# EAGLE library part MPQ4436GRE-AEC1-Z (library ruark2)
45V 6A Buck Switching Regulator IC Positive Adjustable 0.815V 1 Output 20-PowerVFQFN
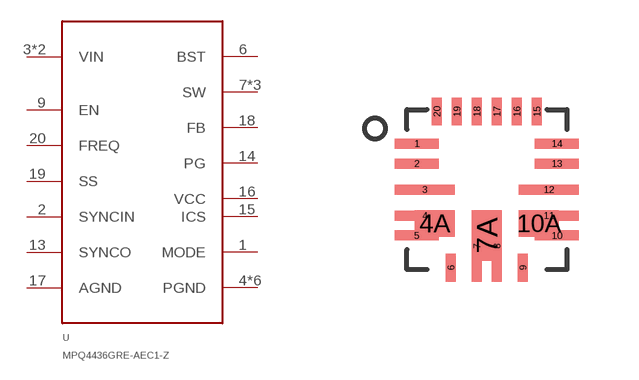
[diagram p144: symbol with the pads of MPQ-QFN-20-4X4; footprint MPQ-QFN-20-4X4]

Designator prefix U

## MPQ4436GRE-AEC1-Z (PARTNO: 1589-MPQ4436GRE-AEC1-ZCT-ND)  [MPQ-QFN-20-4X4]
1  MODE
2  SYNCIN
3  VIN
4  PGND
4A  PGND
5  PGND
6  BST
7  SW
7A  SW
8  SW
9  EN
10  PGND
10A  PGND
11  PGND
12  VIN
13  SYNCO
14  PG
15  ICS
16  VCC
17  AGND
18  FB
19  SS
20  FREQ

## Footprint MPQ-QFN-20-4X4 (pad centres in mm)
smd 1.1 x 0.25: 1 -1.75,1.15; 2 -1.75,0.65; 5 -1.75,-1.15; 10 1.75,-1.15; 13 1.75,0.65; 14 1.75,1.15
smd 1.5 x 0.25: 3 -1.55,0; 4 -1.55,-0.65; 11 1.55,-0.65; 12 1.55,0
smd 1 x 0.65: 4A -1.3,-0.85; 10A 1.3,-0.85
smd 0.25 x 0.7: 6 -0.9,-1.95; 9 0.9,-1.95; 15 1.25,1.95; 16 0.75,1.95; 17 0.25,1.95; 18 -0.25,1.95; 19 -0.75,1.95; 20 -1.25,1.95
smd 0.25 x 1.775: 7 -0.25,-1.413; 8 0.25,-1.413
smd 0.75 x 1.275: 7A 0,-1.15